# EAGLE library part XR-1010D (library exar)
Second order switched capacitor FILTER
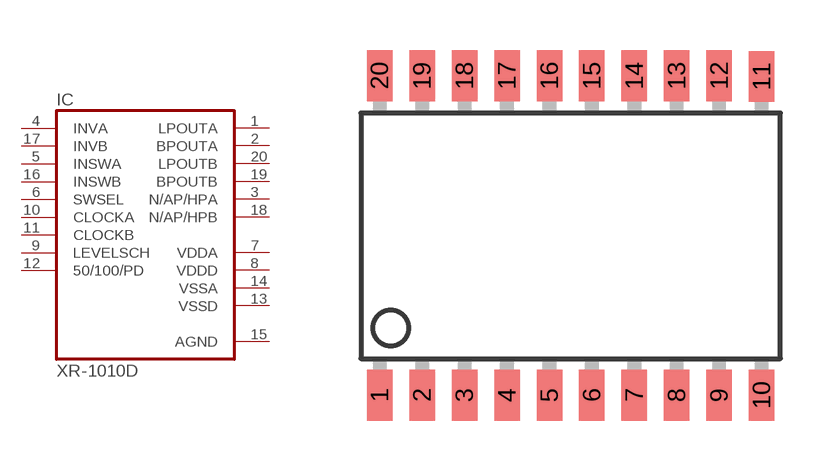
[diagram p98: symbol with the pads of SO-20LD; footprint SO-20LD]

Designator prefix IC

## XR-1010D (OC_FARNELL: unknown; OC_NEWARK: unknown)  [SO-20LD]
1  LPOUTA  out
2  BPOUTA  out
3  N/AP/HPA  out
4  INVA  in
5  INSWA  in
6  SWSEL  in
7  VDDA  pwr
8  VDDD  pwr
9  LEVELSCH  in
10  CLOCKA  in
11  CLOCKB  in
12  50/100/PD  in
13  VSSD  pwr
14  VSSA  pwr
15  AGND  pwr
16  INSWB  in
17  INVB  in
18  N/AP/HPB  out
19  BPOUTB  out
20  LPOUTB  out

## Footprint SO-20LD (pad centres in mm)
Small Outline Package
smd 0.762 x 1.524: 1 -5.715,-4.775; 2 -4.445,-4.775; 3 -3.175,-4.775; 4 -1.905,-4.775; 5 -0.635,-4.775; 6 0.635,-4.775; 7 1.905,-4.775; 8 3.175,-4.775; 9 4.445,-4.775; 10 5.715,-4.775; 11 5.715,4.75; 12 4.445,4.775; 13 3.175,4.775; 14 1.905,4.775; 15 0.635,4.775; 16 -0.635,4.775; 17 -1.905,4.775; 18 -3.175,4.775; 19 -4.445,4.775; 20 -5.715,4.775